# Altium schematic symbol library 691 244 510 0xx.SchLib: 9 symbols
Pins are listed as number, name and electrical type; pins without a type are passive.

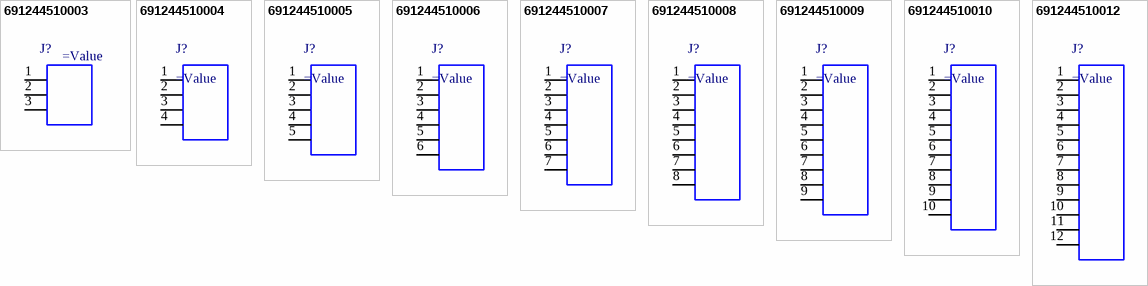
[diagram p0: symbols 691244510003 to 691244510012]

## 691244510003
designator J?
WR-TBL Horizontal Cable Entry With Rising Cage Clamp,Serie 2445 - 5.08 mm; Manufacturer: Wurth Elektronik; partNo: 691244510003; ComponentLink1 Description: Manufacturer; ComponentLink2 Description: Datasheet; ComponentLink1URL: http://www.we-online.de; ComponentLink2URL: http://katalog.we-online.de/em/datasheet/6912445100XX.pdf; Created by: Baojun Chen; Created Date: 15.Sep.2015; =Value: 691244510003
footprint 691244510003 (Serie 2445 - 5.08 mm _ 3 pins)
pins: 1, 2, 3

## 691244510004
designator J?
WR-TBL Horizontal Cable Entry With Rising Cage Clamp,Serie 2445 - 5.08 mm; Manufacturer: Wurth Elektronik; partNo: 691244510004; ComponentLink1 Description: Manufacturer; ComponentLink2 Description: Datasheet; ComponentLink1URL: http://www.we-online.de; ComponentLink2URL: http://katalog.we-online.de/em/datasheet/6912445100XX.pdf; Created by: Baojun Chen; Created Date: 15.Sep.2015; =Value: 691244510004
footprint 691244510004 (Serie 2445 - 5.08 mm _ 4 pins)
pins: 1, 2, 3, 4

## 691244510005
designator J?
WR-TBL Horizontal Cable Entry With Rising Cage Clamp,Serie 2445 - 5.08 mm; Manufacturer: Wurth Elektronik; partNo: 691244510005; ComponentLink1 Description: Manufacturer; ComponentLink2 Description: Datasheet; ComponentLink1URL: http://www.we-online.de; ComponentLink2URL: http://katalog.we-online.de/em/datasheet/6912445100XX.pdf; Created by: Baojun Chen; Created Date: 15.Sep.2015; =Value: 691244510005
footprint 691244510005 (Serie 2445 - 5.08 mm _ 5 pins)
pins: 1, 2, 3, 4, 5

## 691244510006
designator J?
WR-TBL Horizontal Cable Entry With Rising Cage Clamp,Serie 2445 - 5.08 mm; Manufacturer: Wurth Elektronik; partNo: 691244510006; ComponentLink1 Description: Manufacturer; ComponentLink2 Description: Datasheet; ComponentLink1URL: http://www.we-online.de; ComponentLink2URL: http://katalog.we-online.de/em/datasheet/6912445100XX.pdf; Created by: Baojun Chen; Created Date: 15.Sep.2015; =Value: 691244510006
footprint 691244510006 (Serie 2445 - 5.08 mm _ 6 pins)
pins: 1, 2, 3, 4, 5, 6

## 691244510007
designator J?
WR-TBL Horizontal Cable Entry With Rising Cage Clamp,Serie 2445 - 5.08 mm; Manufacturer: Wurth Elektronik; partNo: 691244510007; ComponentLink1 Description: Manufacturer; ComponentLink2 Description: Datasheet; ComponentLink1URL: http://www.we-online.de; ComponentLink2URL: http://katalog.we-online.de/em/datasheet/6912445100XX.pdf; Created by: Baojun Chen; Created Date: 15.Sep.2015; =Value: 691244510007
footprint 691244510007 (Serie 2445 - 5.08 mm _ 7 pins)
pins: 1, 2, 3, 4, 5, 6, 7

## 691244510008
designator J?
WR-TBL Horizontal Cable Entry With Rising Cage Clamp,Serie 2445 - 5.08 mm; Manufacturer: Wurth Elektronik; partNo: 691244510008; ComponentLink1 Description: Manufacturer; ComponentLink2 Description: Datasheet; ComponentLink1URL: http://www.we-online.de; ComponentLink2URL: http://katalog.we-online.de/em/datasheet/6912445100XX.pdf; Created by: Baojun Chen; Created Date: 15.Sep.2015; =Value: 691244510008
footprint 691244510008 (Serie 2445 - 5.08 mm _ 8 pins)
pins: 1, 2, 3, 4, 5, 6, 7, 8

## 691244510009
designator J?
WR-TBL Horizontal Cable Entry With Rising Cage Clamp,Serie 2445 - 5.08 mm; Manufacturer: Wurth Elektronik; partNo: 691244510009; ComponentLink1 Description: Manufacturer; ComponentLink2 Description: Datasheet; ComponentLink1URL: http://www.we-online.de; ComponentLink2URL: http://katalog.we-online.de/em/datasheet/6912445100XX.pdf; Created by: Baojun Chen; Created Date: 15.Sep.2015; =Value: 691244510009
footprint 691244510009 (Serie 2445 - 5.08 mm _ 9 pins)
pins: 1, 2, 3, 4, 5, 6, 7, 8, 9

## 691244510010
designator J?
WR-TBL Horizontal Cable Entry With Rising Cage Clamp,Serie 2445 - 5.08 mm; Manufacturer: Wurth Elektronik; partNo: 691244510010; ComponentLink1 Description: Manufacturer; ComponentLink2 Description: Datasheet; ComponentLink1URL: http://www.we-online.de; ComponentLink2URL: http://katalog.we-online.de/em/datasheet/6912445100XX.pdf; Created by: Baojun Chen; Created Date: 15.Sep.2015; =Value: 691244510010
footprint 691244510010 (Serie 2445 - 5.08 mm _ 10 pins)
pins: 1, 2, 3, 4, 5, 6, 7, 8, 9, 10

## 691244510012
designator J?
WR-TBL Horizontal Cable Entry With Rising Cage Clamp,Serie 2445 - 5.08 mm; Manufacturer: Wurth Elektronik; partNo: 691244510012; ComponentLink1 Description: Manufacturer; ComponentLink2 Description: Datasheet; ComponentLink1URL: http://www.we-online.de; ComponentLink2URL: http://katalog.we-online.de/em/datasheet/6912445100XX.pdf; Created by: Baojun Chen; Created Date: 15.Sep.2015; =Value: 691244510012
footprint 691244510012 (Serie 2445 - 5.08 mm _ 12 pins)
pins: 1, 2, 3, 4, 5, 6, 7, 8, 9, 10, 11, 12